# Altium schematic symbol library TAUV-Lib.SchLib: 493 symbols (part 1 of 5)
Pins are listed as number, name and electrical type; pins without a type are passive.

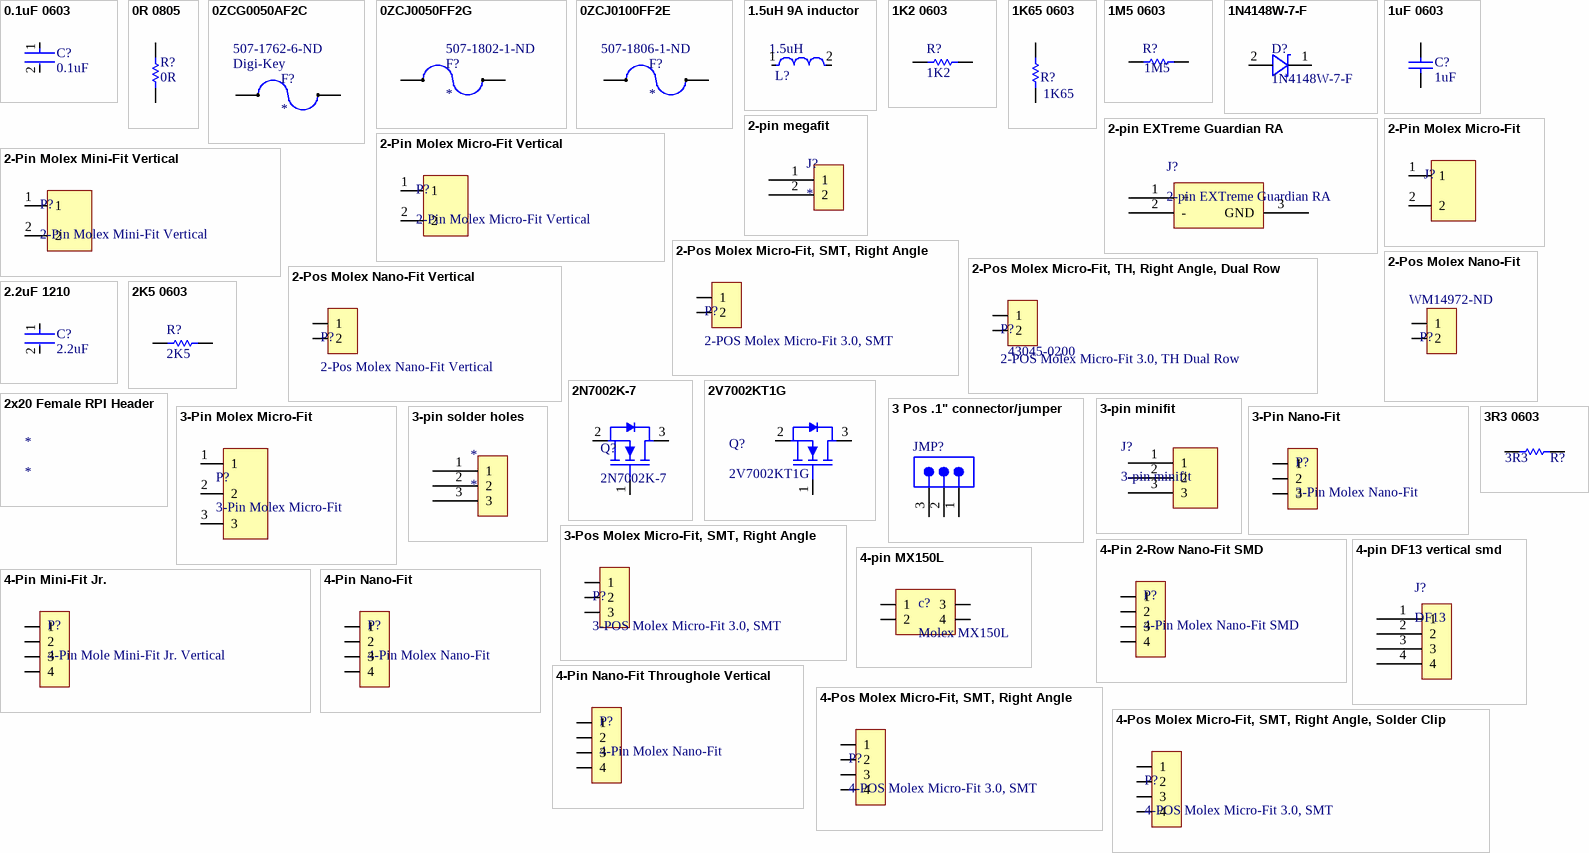
[diagram p0: symbols 0.1uF 0603 to 4-Pos Molex Micro-Fit, SMT, Right Angle, Solder Clip]

## 0.1uF 0603
designator C?, comment 0.1uF
CC0603KRX7R9BB104-CAP CER 0.1UF 50V X7R 0603; Manufacturer: YAGEO; Material: Ceramic; Capacitance: 100 nF; Temperature Coefficient: 15%; Tolerance: 0.1; Value: 100 nF; Height: 0.9mm; Voltage: 50 V; ComponentLink2Description: Datasheet; Device Class L2: Capacitors; Temperature Range High: +125°C; Category: Cap; Footprint Url: http://www.yageo.com/exep/pages/download/literatures/UPY-C_GEN_24.pdf; ComponentLink2URL: http://www.yageo.com/documents/recent/UPY-GPHC_X7R_6.3V-to-50V_18.pdf; Package: CC0603-DA; Temperature: -55°C to +125°C; Voltage Rating: 50 V; Temperature Characteristic: X7R; Device Class L1: Passive Components; Temperature Range Low: -55°C; Manufacturer Part Number: CC0603KRX7R9BB104; RoHS: TRUE; Automotive: No; Device Class L3: Ceramic Capacitors; Octopart: https://octopart.com/cc0603krx7r9bb104-yageo-42244635; Mouser Description: Multilayer Ceramic Capacitor, CC Series, 0.1 - F, - 10%, X7R, 50 V, 0603 [1608 Metric]; Lead Free: Yes; Digikey Description: CAP CER 0.1UF 50V X7R 0603; ComponentLink3Description: Link; ComponentLink3URL: https://www.digikey.com/en/products/detail/samsung-electro-mechanics/CL10B104KB8NNWC/3887593
footprint FP-CC0603-DA-MFG
footprint FP-CC0603-DA-IPC_C
footprint FP-CC0603-DA-IPC_B
footprint FP-CC0603-DA-IPC_A
footprint 0603
pins: 1, 2

## 0R 0805
designator R?, comment 0R
0 Ohm 0805; Manufacturer: Vishay Dale; Part Number: CRCW08050000Z0EA; ComponentLink1Description: Link; ComponentLink1URL: https://www.digikey.com/en/products/detail/stackpole-electronics-inc/RMCF0805ZT0R00/1756901
footprint RESC2013X50X30LL20T20 (Chip Resistor, 2-Leads, Body 2.00x1.25mm, IPC High Density)
footprint RESC2013X50X30ML20T20 (Chip Resistor, 2-Leads, Body 2.00x1.25mm, IPC Low Density)
footprint RESC2013X50X30NL20T20 (Chip Resistor, 2-Leads, Body 2.00x1.25mm, IPC Medium Density)
footprint 0805
pins: 1, 2
1 alternate drawing of the same symbol

## 0ZCG0050AF2C
designator F?  Supplier 1: Digi-Key  Supplier Part Number 1: 507-1762-6-ND
PTC RESET FUSE 30V 500MA 1812; ComponentLink1Description: Digikey Link; ComponentLink1URL: https://www.digikey.com/product-detail/en/bel-fuse-inc/0ZCG0050AF2C/507-1762-1-ND/4156148
footprint 1812 Resistor Package
pins: 1, 2

## 0ZCJ0050FF2G
designator F?  Supplier Part Number 1: 507-1802-1-ND
PTC RESTTBLE 0.50A 8V CHIP 1206; Supplier 1: Digi-Key
footprint FUSE 3217X06N (PTC Resettable Fuse 8V Ih Surface Mount 1206 (3216 Metric), Concave)
pins: 1, 2

## 0ZCJ0100FF2E
designator F?  Supplier Part Number 1: 507-1806-1-ND
PTC RESTTBLE 1.0A 6V CHIP 1206; Supplier 1: Digi-Key
footprint FUSE 3217X06N (PTC Resettable Fuse 8V Ih Surface Mount 1206 (3216 Metric), Concave)
pins: 1, 2

## 1.5uH 9A inductor
designator L?, comment 1.5uH
Commercial Inductors, High Saturation Series 1.5uH 9A 15mΩ 20%; DC Resistance (DCR): 15mR; Shielding: Shielded; Self Resonant Frequency: 5MHz; Max DC Current: 18A; Test Frequency: 100kHz; Core Material: Metal; Packaging: Tape and Reel; RMS Current (Irms): 9A; Length: 7.24mm; Case Code (Imperial): 2525; Case/Package: 2525; Min Operating Temperature: -55°C; Number of Pins: 2; Contact Plating: Tin; Height: 3mm; Height - Seated (Max): 0.118inch; Termination: SMD/SMT; Max Operating Temperature: 125°C; Depth: 6.72mm; Width: 6.47mm; Current Rating: 9A; Tolerance: 20%; Lead Free: Lead Free; Military Standard: Not; Radiation Hardening: No; Saturation Current: 18A; Package Quantity: 2000; Inductance Tolerance: 20%; Inductance: 1.5uH; Mount: Surface Mount; ComponentLink1Description: Link; ComponentLink1URL: https://www.digikey.com/en/products/detail/vishay-dale/IHLP2525CZER1R5M01/1220672
footprint FP-IHLP-2525CZ-FP_2_413x3-MFG
pins: 1, 2

## 1K2 0603
designator R?, comment 1K2
1K2 0.1W 1% 0603 (1608 Metric)  SMD; Case-EIA: 0603; Value: 1200.00 Ohm; Case-Metric: 1608; Power: 0.1 W; Technology: SMT; Tolerance: 1 %; ComponentLink1Description: Link; ComponentLink1URL: https://www.digikey.com/en/products/detail/yageo/RC0603FR-131K2L/14008161
footprint RESC0603(1608)_M (Chip Resistor, Body 1.6x0.8mm, IPC Low Density)
footprint RESC0603(1608)_N (Chip Resistor, Body 1.6x0.8mm, IPC Medium Density)
footprint RESC0603(1608)_L (Chip Resistor, Body 1.6x0.8mm, IPC High Density)
footprint 0603
pins: 1, 2
1 alternate drawing of the same symbol

## 1K65 0603
designator R?, comment 1K65
1.65k 0603; Part Number: RC0603FR-071K65L; Manufacturer: Yageo; ComponentLink1Description: Link; ComponentLink1URL: https://www.digikey.com/en/products/detail/yageo/RC0603FR-071K65L/726870
footprint RESC1608X55X25ML10T15 (Chip Resistor, 2-Leads, Body 1.60x0.80mm, IPC Low Density)
footprint RESC1608X55X25NL10T15 (Chip Resistor, 2-Leads, Body 1.60x0.80mm, IPC Medium Density)
footprint RESC1608X55X25LL10T15 (Chip Resistor, 2-Leads, Body 1.60x0.80mm, IPC High Density)
footprint 0603
pins: 1, 2
1 alternate drawing of the same symbol

## 1M5 0603
designator R?, comment 1M5
CRCW06031M50FKEA-1M5 0603; Manufacturer: Vishay Dale; Part Number: CRCW06031M50FKEA; ComponentLink1Description: Link; ComponentLink1URL: https://www.digikey.com/en/products/detail/yageo/RC0603FR-071M5L/726865
footprint RESC1609X50X30NL10T20 (Chip Resistor, 2-Leads, Body 1.55x0.85mm, IPC Medium Density)
footprint RESC1609X50X30LL10T20 (Chip Resistor, 2-Leads, Body 1.55x0.85mm, IPC High Density)
footprint RESC1609X50X30ML10T20 (Chip Resistor, 2-Leads, Body 1.55x0.85mm, IPC Low Density)
footprint 0603
pins: 1, 2
1 alternate drawing of the same symbol

## 1N4148W-7-F
designator D?
DIODE GEN PURP 100V 300MA SOD123; Supplier: DigiKey; Part Number: 1N4148W-7-F; Supplier Part Number: 1N4148W-FDICT-ND; Datasheet URL: https://www.diodes.com/assets/Datasheets/ds30086.pdf
footprint 1N4148W-7-F
pins: 1 NPNB, 2 NPNB

## 1uF 0603
designator C?, comment 1uF
CAP 1uF 25V ±10% 0603 (1608 Metric) Thickness 1mm SMD; Tolerance: Â±10%; Case-Metric: 1608; Case-EIA: 0603; Technology: SMT; Rated Voltage: 25 V; Max Thickness: 1 mm; Value: 1uF; ComponentLink1Description: Link; ComponentLink1URL: https://www.digikey.com/en/products/detail/samsung-electro-mechanics/CL10B105KA8NNNC/3886842
footprint CAPC0603(1608)100_L (Chip Capacitor, Body 1.6x0.8mm, Height 1.0mm, IPC High Density)
footprint CAPC0603(1608)100_N (Chip Capacitor, Body 1.6x0.8mm, Height 1.0mm, IPC Medium Density)
footprint CAPC0603(1608)100_M (Chip Capacitor, Body 1.6x0.8mm, Height 1.0mm, IPC Low Density)
footprint 0603
pins: 1, 2
1 alternate drawing of the same symbol

## 2-pin EXTreme Guardian RA
designator J?
WM8755-ND; ComponentLink1Description: digikey part; ComponentLink1URL: https://www.digikey.com/product-detail/en/molex/0468171002/WM8755-ND/3189761; ComponentLink2Description: mating connector; ComponentLink2URL: https://www.digikey.com/product-detail/en/molex/1510340012/WM14983-ND/6132389
footprint 2-pin EXTreme Guardian RA
pins: 1 +, 2 -, 3 GND

## 2-pin megafit
designator J?
footprint 2-pin Megafit RA
pins: 1, 2

## 2-Pin Molex Micro-Fit
designator J?
Part Number: 0436500203; Manufacturer: Molex; Datasheet: http://www.molex.com/pdm_docs/sd/436500203_sd.pdf; Supplier Part Number: WM1870-ND; Supplier: Digi-key
footprint 2 Pin Molex Micro-Fit
pins: 1, 2

## 2-Pin Molex Micro-Fit Vertical
designator P?
Part Number: 43650-0218; Manufacturer: Molex; Supplier 1: Digi-Key; Datasheet: http://www.molex.com/pdm_docs/sd/436500218_sd.pdf; Supplier Part Number 1: WM9757-ND
footprint 2 Pin Molex Micro-Fit Vertical
pins: 1, 2

## 2-Pin Molex Mini-Fit Vertical
designator P?
Part Number: 39-29-9025; Supplier Part Number: WM10860-ND; Supplier: Digi-key; Manufacturer: Molex
footprint Molex Mini Fit Jr. 2 Pin Vertical
pins: 1, 2

## 2-Pos Molex Micro-Fit, SMT, Right Angle
designator P?, comment 2-POS Molex Micro-Fit 3.0, SMT
2-Pos Molex Micro-Fit Right Angle, Dual Row, SMT; Part Number: 43650-0212; Datasheet: http://www.molex.com/pdm_docs/sd/436500212_sd.pdf; Manufacturer: Molex; Supplier 1: Digi-Key; Supplier Part Number 1: WM1890CT-ND
footprint 2-POS Molex Micro-Fit 3.0 (2-POS SMT HEADER, Molex Micro-Fit 3.0)
pins: 1, 2

## 2-Pos Molex Micro-Fit, TH, Right Angle, Dual Row
designator P?, comment 2-POS Molex Micro-Fit 3.0, TH Dual Row  Part Number: 43045-0200
2-Pos Molex Micro-Fit Right Angle, Dual Row, TH; Datasheet: http://www.molex.com/pdm_docs/sd/430450200_sd.pdf; Manufacturer: Molex; Supplier 1: Digi-Key; Supplier 2: Mouser; Supplier Part Number 2: N/A; Supplier Part Number 1: WM1813-ND
footprint 2-POS MOLEX MICRO-FIT 3.0 Dual Row (2-POS TH Dual Row HEADER, Molex Micro-Fit 3.0)
pins: 1, 2

## 2-Pos Molex Nano-Fit
designator P?  Supplier Part Number 1: WM14972-ND
2-Pos Molex Nano-Fit; Value: Value; Type: Type; RefDes: RefDes; Supplier 1: Digi-Key
footprint MOLEX NANO-FIT 1X2
pins: 1, 2

## 2-Pos Molex Nano-Fit Vertical
designator P?
Part Number: 1053111102; Datasheet: http://www.molex.com/pdm_docs/sd/436500212_sd.pdf; Manufacturer: Molex; Supplier 1: Digi-Key; Supplier Part Number 1: WM16921-ND
footprint MOLEX NANO-FIT 1X2 - Vertical (MOLEX NANO-FIT 1X2 - Vertical with Solder Clips)
pins: 1, 2

## 2.2uF 1210
designator C?, comment 2.2uF
General Purpose Ceramic Capacitor, 1210, 2.2uF, 10%, X7R, 15%, 100V; Dissipation Factor: 2.5%; Number of Pins: 2; Lead Free: Lead Free; Voltage Rating: 100V; Min Operating Temperature: -55°C; Height: 2.79mm; Length: 3.2mm; Capacitance: 2.2uF; RoHS Compliant: Yes; Case/Package: 1210; Max Operating Temperature: 125°C; Radiation Hardening: No; Series: -; Case Code (Metric): 3225; Dielectric: X7R; Voltage Rating (DC): 100V; Packaging: Tape and Reel; Width: 2.5mm; Thickness: 0.11inch; Depth: 2.5mm; Contact Plating: Tin; REACH SVHC: No SVHC; Tolerance: 10%; Construction: Flat; Case Code (Imperial): 1210; Mount: Surface Mount; Package Quantity: 1; Termination: SMD/SMT; Voltage: 100V; ComponentLink1Description: Link; ComponentLink1URL: https://www.digikey.com/en/products/detail/samsung-electro-mechanics/CL32B225KCJSNNE/3889020
footprint FP-1210-L_3_3_0_4-W_2_5_0-IPC_B
footprint FP-1210-L_3_3_0_4-W_2_5_0-IPC_C
footprint FP-1210-L_3_3_0_4-W_2_5_0-MFG
footprint FP-1210-L_3_3_0_4-W_2_5_0-IPC_A
footprint 1210
pins: 1, 2

## 2K5 0603
designator R?, comment 2K5
2.5K 0603; Manufacturer: Yageo; Part Number: RC0603FR-072K55L; ComponentLink1Description: Link; ComponentLink1URL: https://www.digikey.com/en/products/detail/yageo/RC0603FR-072K55L/727029
footprint RESC1608X55X25NL10T15 (Chip Resistor, 2-Leads, Body 1.60x0.80mm, IPC Medium Density)
footprint RESC1608X55X25LL10T15 (Chip Resistor, 2-Leads, Body 1.60x0.80mm, IPC High Density)
footprint RESC1608X55X25ML10T15 (Chip Resistor, 2-Leads, Body 1.60x0.80mm, IPC Low Density)
footprint 0603
pins: 1, 2
1 alternate drawing of the same symbol

## 2N7002K-7
designator Q?
MOSFET N-CH 60V 0.38A SOT23-3; Supplier: Digikey; Part Number: 2N7002K-7; Supplier Part Number: 2N7002K-7DICT-ND; Datasheet URL: https://www.diodes.com/assets/Datasheets/ds30896.pdf
footprint 2N7002K-7 (MOSFET N-CH 60V 0.38A SOT23-3)
pins: 1, 2, 3

## 2V7002KT1G
designator Q?
MOSFET N-CH 60V 320MA SOT-23-3; Supplier: DigiKey; Supplier Part Number: 2V7002KT1GOSCT-ND; Part Number: 2V7002KT1G; Datasheet URL: www.mouser.com/ds/2/308/2N7002K-D-40616.pdf
footprint 2V7002KT1G
pins: 1, 2, 3

## 2x20 Female RPI Header
designator *

## 3 Pos .1" connector/jumper
designator JMP?, comment TSW-103-07-L-S  (value not drawn)
0.025" SQ Post Header, Through-hole, Vertical, -55 to 125 degC, 2.54 mm Pitch, 3-Pin, Male, RoHS; Manufacturer: Samtec; Pitch: 2.54 mm; Mounting Technology: Through-hole; ComponentLink2URL: http://www.samtec.com/documents/webfiles/pdf/TSW_TH.PDF; ComponentLink3Description: Package Specification; PackageVersion: DM, 8/1988; PartNumber: TSW-103-07-L-S; PackageReference: TSW-103-07-X-S; Orientation: Vertical; ComponentLink1URL: http://www.samtec.com; PackageDescription: .025[0.64] SQ. Post Terminal Strip Assembly; ComponentLink1Description: Manufacturer URL; ComponentLink2Description: Datasheet; ComponentLink3URL: http://www.samtec.com/documents/webfiles/cpdf/TSW-XXX-XX-XXX-X-XX-XXX-MKT.pdf; RoHS: True; DatasheetVersion: F-214; Temperature Range: -55 to 125 degC
footprint SMTC-TSW-103-07-X-S (.025 SQ Post Terminal Strip Assembly, 1x3 Pins, Vertical, 2.54mm Pitch, Male)
pins: 1, 2, 3

## 3-pin minifit
designator J?
RA: WM4273-ND / VERT: WM18442-ND
footprint 3-PIN MINIFIT RA
footprint 3-PIN MINIFIT VERT
pins: 1, 2, 3

## 3-Pin Molex Micro-Fit
designator P?
3-Pin Molex Micro-Fit Right Angle; Part Number: 43650-0304; Datasheet: http://www.molex.com/pdm_docs/sd/436500304_sd.pdf; Supplier Part Number: WM1876-ND; Supplier: Digi-key; Manufacturer: Molex
footprint 3 Pin Molex Micro-Fit
pins: 1, 2, 3

## 3-Pin Nano-Fit
designator P?, comment 3-Pin Molex Nano-Fit
NanoFit RA Hdr TH SR 3Ckt; Part Number: 105313-1204; Supplier: Mouser; Manufacturer: Molex; Supplier Part Number: 538-105313-1204
footprint MOLEX NANO-FIT 1X3
pins: 1, 2, 3

## 3-pin solder holes
designator *
footprint 3-PIN SOLDER HOLES
footprint 3-PIN SOLDER HOLES - small
pins: 1, 2, 3

## 3-Pos Molex Micro-Fit, SMT, Right Angle
designator P?, comment 3-POS Molex Micro-Fit 3.0, SMT
3-Pos Molex Micro-Fit Right Angle, Dual Row, SMT; Part Number: 43650-0312; Datasheet: http://www.molex.com/pdm_docs/sd/436500312_sd.pdf; Manufacturer: Molex; Supplier 1: Digi-Key; Supplier Part Number 1: WM1891CT-ND
footprint 3-POS Molex Micro-Fit 3.0 (3-POS SMT HEADER, Molex Micro-Fit 3.0)
pins: 1, 2, 3

## 3R3 0603
designator R?, comment 3R3
ERJ-3RQF3R3V- 3R3 0603; Manufacturer: Panasonic; Part Number: ERJ-3RQF3R3V; ComponentLink1Description: Link; ComponentLink1URL: https://www.digikey.com/en/products/detail/yageo/RC0603FR-133R3L/14008285
footprint RESC1608X55X30NL15T15 (Footprint not found)
footprint RESC1608X55X30LL15T15 (Chip Resistor, 2-Leads, Body 1.60x0.80mm, IPC High Density)
footprint RESC1608X55X30ML15T15 (Chip Resistor, 2-Leads, Body 1.60x0.80mm, IPC Low Density)
footprint 0603
pins: 1, 2
1 alternate drawing of the same symbol

## 4-Pin 2-Row Nano-Fit SMD
designator P?, comment 4-Pin Molex Nano-Fit SMD
NanoFit RA Hdr SMD SR 4Ckt 2Row; Part Number: 105313-1204; Supplier: Mouser; Manufacturer: Molex; Supplier Part Number: 538-105313-1204
footprint 4-POS 2x2 MOLEX NANO-FIT SMT
pins: 1, 2, 3, 4

## 4-pin DF13 vertical smd
designator J?, comment DF13
H126000CT-ND
footprint 4-pin DF13 vertical smd
pins: 1, 2, 3, 4

## 4-Pin Mini-Fit Jr.
designator P?, comment 4-Pin Mole Mini-Fit Jr. Vertical
Manufacturer: Molex; Part Number: 0039302042; Supplier: Digikey; Supplier Part Number: WM12737-ND
footprint Molex Mini Fit Jr. 4 Pin Vertical
pins: 1, 2, 3, 4

## 4-pin MX150L
designator c?, comment Molex MX150L
footprint Molex MX150L 2x2
pins: 1, 2, 3, 4

## 4-Pin Nano-Fit
designator P?, comment 4-Pin Molex Nano-Fit
NanoFit RA Hdr TH SR 4Ckt; Part Number: 105313-1204; Supplier: Mouser; Manufacturer: Molex; Supplier Part Number: 538-105313-1204
footprint MOLEX NANO-FIT 1X4
pins: 1, 2, 3, 4

## 4-Pin Nano-Fit Throughole Vertical
designator P?, comment 4-Pin Molex Nano-Fit
NanoFit ST Hdr TH SR 4Ckt; Part Number: 105313-1204; Supplier: Mouser; Manufacturer: Molex; Supplier Part Number: 538-105313-1204
footprint MOLEX NANO-FIT 1X4 - Vertical (MOLEX NANO-FIT 1X4 - Vertical with Solder Clips)
pins: 1, 2, 3, 4

## 4-Pos Molex Micro-Fit, SMT, Right Angle
designator P?, comment 4-POS Molex Micro-Fit 3.0, SMT
4-Pos Molex Micro-Fit Right Angle, SMT; Part Number: 43650-0412; Datasheet: http://www.molex.com/pdm_docs/sd/436500412_sd.pdf; Manufacturer: Molex; Supplier 1: Digi-Key; Supplier Part Number 1: WM1892CT-ND
footprint 4-POS Molex Micro-Fit 3.0 (4-POS SMT HEADER, Molex Micro-Fit 3.0)
pins: 1, 2, 3, 4

## 4-Pos Molex Micro-Fit, SMT, Right Angle, Solder Clip
designator P?, comment 4-POS Molex Micro-Fit 3.0, SMT
4-Pos Molex Micro-Fit Right Angle, Solder Clip, SMT; Part Number: 43650-0412; Datasheet: http://www.molex.com/pdm_docs/sd/436500412_sd.pdf; Manufacturer: Molex; Supplier 1: Digi-Key; Supplier Part Number 1: WM1892CT-ND
footprint 4-POS Molex Micro-Fit 3.0, solder clip (4-POS SMT HEADER, Molex Micro-Fit 3.0, solder clip)
pins: 1, 2, 3, 4

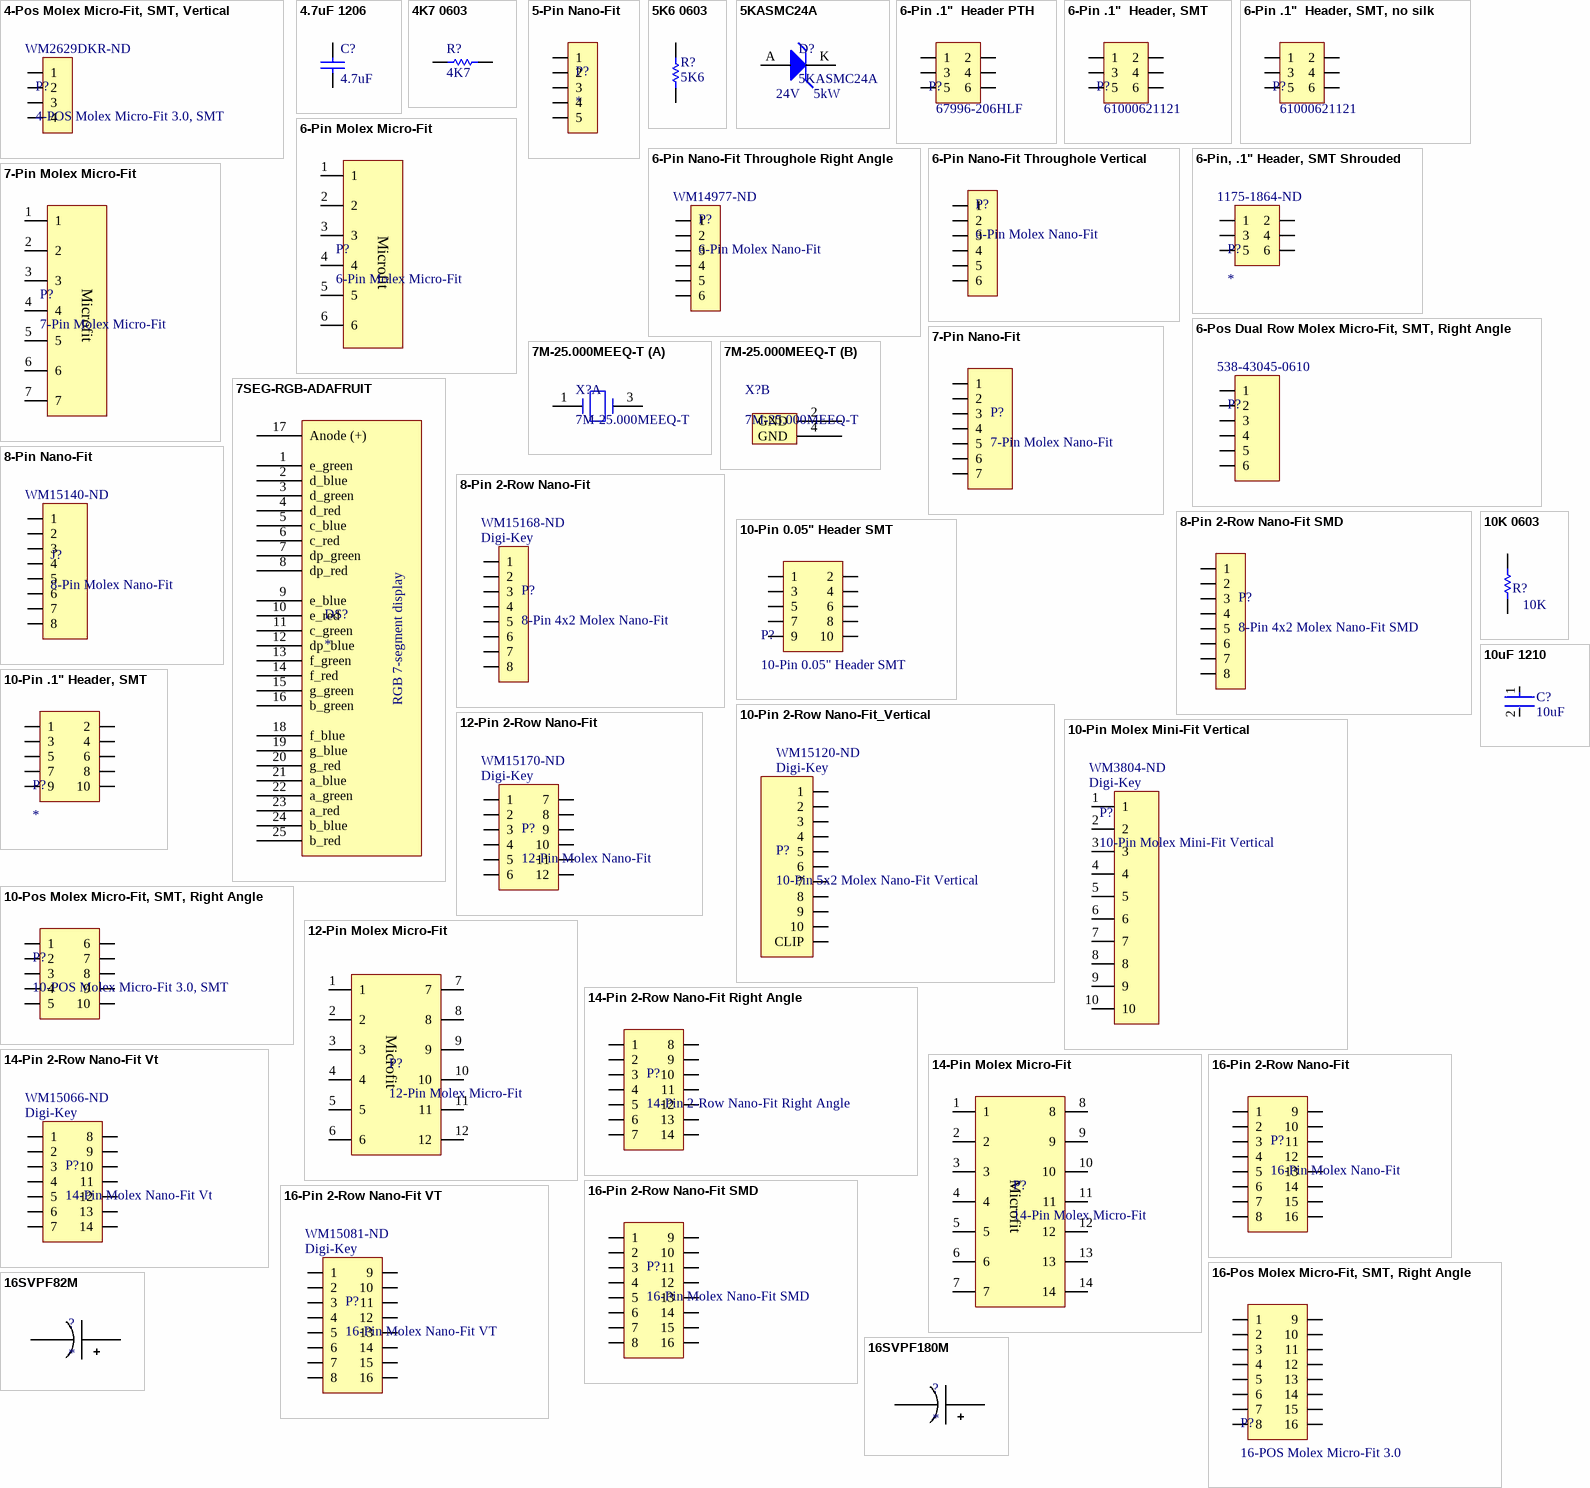
[diagram p1: symbols 4-Pos Molex Micro-Fit, SMT, Vertical to 16SVPF180M]

## 4-Pos Molex Micro-Fit, SMT, Vertical
designator P?, comment 4-POS Molex Micro-Fit 3.0, SMT  Supplier Part Number 1: WM2629DKR-ND
4-Pos Molex Micro-Fit Right Angle, Dual Row, SMT; Part Number: 43650-0412; Datasheet: http://www.molex.com/pdm_docs/sd/436500412_sd.pdf; Manufacturer: Molex; Supplier 1: Digi-Key
footprint 4-POS Molex Micro-Fit 3.0 Vertical (4-POS SMT HEADER, Molex Micro-Fit 3.0 Vertical)
pins: 1, 2, 3, 4

## 4.7uF 1206
designator C?, comment 4.7uF
CAP 4.7uF 35V ±10% 1206 (3216 Metric) Thickness 1.9mm SMD; Case-EIA: 1206; Tolerance: Â±10%; Case-Metric: 3216; Rated Voltage: 35 V; Technology: SMT; Value: 4.7uF; Max Thickness: 1.9 mm; ComponentLink1Description: Link; ComponentLink1URL: https://www.digikey.com/en/products/detail/samsung-electro-mechanics/CL31B475KBHNFNE/3888837
footprint CAPC1206(3216)190_L (Chip Capacitor, Body 3.2x1.6mm, Height 1.9mm, IPC High Density)
footprint CAPC1206(3216)190_M (Chip Capacitor, Body 3.2x1.6mm, Height 1.9mm, IPC Low Density)
footprint CAPC1206(3216)190_N (Chip Capacitor, Body 3.2x1.6mm, Height 1.9mm, IPC Medium Density)
footprint 1206
pins: 1, 2
1 alternate drawing of the same symbol

## 4K7 0603
designator R?, comment 4K7
4K7 0.1W 1% 0603 (1608 Metric)  SMD; Case-EIA: 0603; Case-Metric: 1608; Value: 4700.00 Ohm; Power: 0.1 W; Tolerance: 1 %; Technology: SMT; ComponentLink1Description: Link; ComponentLink1URL: https://www.digikey.com/en/products/detail/yageo/RC0603FR-074K7L/727212
footprint RESC0603(1608)_N (Chip Resistor, Body 1.6x0.8mm, IPC Medium Density)
footprint RESC0603(1608)_L (Chip Resistor, Body 1.6x0.8mm, IPC High Density)
footprint RESC0603(1608)_M (Chip Resistor, Body 1.6x0.8mm, IPC Low Density)
footprint 0603
pins: 1, 2
1 alternate drawing of the same symbol

## 5-Pin Nano-Fit
designator P?
pins: 1, 2, 3, 4, 5

## 5K6 0603
designator R?, comment 5K6
Chip Resistor, 5.6 KOhm, +/- 1%, 0.1 W, -55 to 155 degC, 0603 (1608 Metric), RoHS, Tape and Reel; Elements: 1; Max Power Dissipation: 625 mW; hFE Min: 100; Case\Package: TO-236-3; Frequency: 300 MHz; Vce Max: 300 mV; Packaging: Tape and Reel; PackageReference: 0603; RoHSCompliant: true; ComponentLink1URL: http://www.panasonic.com/; ComponentLink2Description: Datasheet; REACH SVHC: No SVHC; PackageDescription: 2-Pin Surface Mount Device, Body 1.6 x 0.85 mm; Mount: Surface Mount; Height: 0.25 inch; Max Operating Temperature: 150 degC; Min Operating Temperature: -55 degC; ComponentLink1Description: Manufacturer URL; Width: 0.25 inch; Package Quantity: 3000; Length: 0.25 inch; DatasheetVersion: Apr-15; Pins: 3; ComponentLink2URL: http://industrial.panasonic.com/cdbs/www-data/pdf/RDA0000/AOA0000C86.pdf; Weight: 0.002116 oz; Radiation Hardening: No; ComponentLink3Description: Link; ComponentLink3URL: https://www.digikey.com/en/products/detail/yageo/RC0603FR-135K6L/14286727
footprint RESC1609X55X30LL15T15 (Chip Resistor, 2-Leads, Body 1.75x0.95mm, IPC High Density)
footprint RESC1609X55X30NL15T15 (Chip Resistor, 2-Leads, Body 1.75x0.95mm, IPC Medium Density)
footprint RESC1609X55X30ML15T15 (Chip Resistor, 2-Leads, Body 1.75x0.95mm, IPC Low Density)
footprint 0603
pins: 1, 2

## 5KASMC24A
designator D?  Power - Peak Pulse: 5kW  Reverse Standoff Voltage: 24V
TVS Diode, Vbr~=28V, 5000W; Supplier 1: Digi-Key; Supplier Part Number 1: 5KASMC24AHM3/57GICT-ND; Datasheet: http://www.vishay.com/docs/89432/5kasmc.pdf
footprint 5KASMC24A
pins: A, K

## 6-Pin .1"  Header PTH
designator P?, comment Manufacturer Part Number: 67996-206HLF  (hidden comment: 3x2 .1" TH Header)
Rows: 2; Supplier 1: Digi-Key; Supplier Part Number 1: 609-3210-ND
footprint 6 PIN Header, .1", TH (3x2 .1" TH Header)
pins: 1, 2, 3, 4, 5, 6

## 6-Pin .1"  Header, SMT
designator P?, comment Manufacturer Part Number: 61000621121  (hidden comment: 3x2 .1" SMT Header)
Rows: 2; Supplier 1: Digi-Key; Supplier Part Number 1: 732-5461-5-ND
footprint 6 PIN Header, .1", SMT (3x2 .1" SMT Header)
pins: 1, 2, 3, 4, 5, 6

## 6-Pin .1"  Header, SMT, no silk
designator P?, comment Manufacturer Part Number: 61000621121  (hidden comment: 3x2 .1" SMT Header, no silk)
Rows: 2; Supplier 1: Digi-Key; Supplier Part Number 1: 732-5461-5-ND
footprint 6 PIN Header, .1", SMT, no silk (w/out silkscreen box)
pins: 1, 2, 3, 4, 5, 6

## 6-Pin Molex Micro-Fit
designator P?
6-Pin Molex Micro-Fit Right Angle; Part Number: 0436500600; Datasheet: http://www.molex.com/molex/products/datasheet.jsp?part=active/0436500609_PCB_HEADERS.xml; Supplier Part Number: WM1864-ND; Supplier: Digi-key; Manufacturer: Molex
footprint 6 Pin Molex Micro-Fit
pins: 1, 2, 3, 4, 5, 6
text: Microfit

## 6-Pin Nano-Fit Throughole Right Angle
designator P?, comment 6-Pin Molex Nano-Fit  Supplier Part Number 1: WM14977-ND
NanoFit ST Hdr TH SR 6Ckt 2x3; Part Number: 105313-1204; Supplier: Mouser; Manufacturer: Molex; Supplier Part Number: 538-105313-1204; Supplier 1: Digi-Key
footprint MOLEX NANO-FIT 2X3 - RIGHT ANGLE (MOLEX NANO-FIT 2X3 - Right Angle)
pins: 1, 2, 3, 4, 5, 6

## 6-Pin Nano-Fit Throughole Vertical
designator P?, comment 6-Pin Molex Nano-Fit
NanoFit ST Hdr TH SR 6Ckt 2x3; Part Number: 105313-1204; Supplier: Mouser; Manufacturer: Molex; Supplier Part Number: 538-105313-1204
footprint MOLEX NANO-FIT 2x3 - Vertical (MOLEX NANO-FIT 2X3 - Vertical with Solder Clips)
pins: 1, 2, 3, 4, 5, 6

## 6-Pin, .1" Header, SMT Shrouded
designator P?  Supplier Part Number 1: 1175-1864-ND
IDC BOX HEADER 0.100 6 POS; Supplier 1: Digi-Key
footprint 6 PIN HEADER, .1", SMT SHROUDED
pins: 1, 2, 3, 4, 5, 6

## 6-Pos Dual Row Molex Micro-Fit, SMT, Right Angle
designator P?, comment Supplier Part Number 1: 538-43045-0610  (hidden comment: 6-POS Dual Row Molex Micro-Fit 3.0, SMT)
6-Pos Dual Row Molex Micro-Fit, SMT, Right Angle; Part Number: 43045-0610; Datasheet: http://www.mouser.com/ds/2/276/0430450610_PCB_HEADERS-142619.pdf; Manufacturer: Molex; Supplier 1: Mouser
footprint 6-POS Dual Row Molex Micro-Fit 3.0 (6-POS Dual Row SMT HEADER, Molex Micro-Fit 3.0)
pins: 1, 2, 3, 4, 5, 6

## 7-Pin Molex Micro-Fit
designator P?
7-Pin Molex Micro-Fit Right Angle; Part Number: 0436500700; Datasheet: http://www.molex.com/pdm_docs/sd/436500203_sd.pdf; Supplier Part Number: WM2423-ND; Supplier: Digi-key; Manufacturer: Molex
footprint 7 Pin Molex Micro-Fit
pins: 1, 2, 3, 4, 5, 6, 7
text: Microfit

## 7-Pin Nano-Fit
designator P?, comment 7-Pin Molex Nano-Fit
NanoFit RA Hdr TH SR 7Ckt; Manufacturer: Mouser; Part Number: 105313-1207; Supplier: Mouser; Supplier Part Number: 538-105313-1207
footprint MOLEX NANO-FIT 1x7
pins: 1, 2, 3, 4, 5, 6, 7

## 7M-25.000MEEQ-T
designator X?
CRYSTAL 25.0000MHZ 10PF SMD; Manufacturer 1: TXC; Frequency: 25MHz; Frequency Tolerance: 10ppm; ESR (Equivalent Series Resistance): 60R; Supplier 1: Digi-Key; Supplier Part Number 1: 887-1326-1-ND; Manufacturer Part Number 1: 7M-25.000MEEQ-T; Stock 1: 17097; Pricing 1: 1=1.27, 10=1.209, 50=1.1812, 100=1.0125, 500=0.9844, 1000=0.8297 (USD); Mount: Surface Mount; Case/Package: SMD/SMT; Number of Pins: 4; Min Operating Temperature: -20°C; Max Operating Temperature: 70°C; Load Capacitance: 10pF; Packaging: Tape and Reel; Package Quantity: 3000; Tolerance: 10ppm; Frequency Stability: 10ppm; Termination: SMD/SMT; Length: 3.2mm; Height: 0.031inch; Width: 0.098inch; Depth: 2.5mm; REACH SVHC: No SVHC; ComponentLink1URL: https://datasheet.ciiva.com/26918/getdatasheetpartid-757227-26918816.pdf; ComponentLink1Description: https://datasheet.ciiva.com/26918/getdatasheetpartid-757227-26918816.pdf; ComponentLink2URL: https://datasheet.ciiva.com/856/7m-accuracy-856022.pdf; ComponentLink2Description: https://datasheet.ciiva.com/856/7m-accuracy-856022.pdf; ComponentLink3URL: https://datasheet.ciiva.com/22658/1794111-22658486.pdf; ComponentLink3Description: https://datasheet.ciiva.com/22658/1794111-22658486.pdf; ComponentLink4URL: https://datasheet.ciiva.com/856/7m-accuracy-856023.pdf; ComponentLink4Description: https://datasheet.ciiva.com/856/7m-accuracy-856023.pdf; ComponentLink5URL: https://datasheet.ciiva.com/856/7m-accuracy-856024.pdf; ComponentLink5Description: https://datasheet.ciiva.com/856/7m-accuracy-856024.pdf; ComponentLink6URL: https://datasheet.ciiva.com/4946/7m-11184-4946126.pdf; ComponentLink6Description: https://datasheet.ciiva.com/4946/7m-11184-4946126.pdf; ComponentLink7URL: https://datasheet.ciiva.com/28498/1794111-28498878.pdf; ComponentLink7Description: https://datasheet.ciiva.com/28498/1794111-28498878.pdf
footprint OSCSC320X250X100N
part A pins: 1 11, 3
part B pins: 2 GND, 4 GND

## 7SEG-RGB-ADAFRUIT
designator DS?
footprint 7SEG-RGB-ADAFRUIT
pins: 1 e_green, 2 d_blue, 3 d_green, 4 d_red, 5 c_blue, 6 c_red, 7 dp_green, 8 dp_red, 9 e_blue, 10 e_red, 11 c_green, 12 dp_blue, 13 f_green, 14 f_red, 15 g_green, 16 b_green, 17 Anode (+), 18 f_blue, 19 g_blue, 20 g_red, 21 a_blue, 22 a_green, 23 a_red, 24 b_blue, 25 b_red
text: RGB 7-segment display

## 8-Pin 2-Row Nano-Fit
designator P?, comment 8-Pin 4x2 Molex Nano-Fit  Supplier 1: Digi-Key  Supplier Part Number 1: WM15168-ND
NanoFit RA Hdr TH DR 8Ckt; Part Number: 105314-1216; Supplier: Digi-Key; Manufacturer: Molex; Supplier Part Number: WM15165-ND
footprint MOLEX NANO-FIT 2x4 (MOLEX NANO-FIT 2X4)
pins: 1, 2, 3, 4, 5, 6, 7, 8

## 8-Pin 2-Row Nano-Fit SMD
designator P?, comment 8-Pin 4x2 Molex Nano-Fit SMD
NanoFit RA Hdr SMD DR 8Ckt; Part Number: 105314-1216; Supplier: Digi-Key; Manufacturer: Molex; Supplier Part Number: WM15165-ND
footprint MOLEX NANO-FIT 4X2 RA SMD
pins: 1, 2, 3, 4, 5, 6, 7, 8

## 8-Pin Nano-Fit
designator J?, comment 8-Pin Molex Nano-Fit  Supplier Part Number 1: WM15140-ND
NANO-FIT HDR RA SGL 8CKT 15AU BL; Supplier 1: Digi-Key
footprint MOLEX NANO-FIT 1x8
pins: 1, 2, 3, 4, 5, 6, 7, 8

## 10-Pin 0.05" Header SMT
designator P?
Manu. Part Number: 3220-10-0300-00; Manu: CNC Tech; Supplier Part Number: 1175-1629-ND; Supplier 1: Digi-Key; Supplier Part Number 1: 1175-1629-ND
footprint 10 PIN 0.05" HEADER
pins: 1, 2, 3, 4, 5, 6, 7, 8, 9, 10

## 10-Pin 2-Row Nano-Fit_Vertical
designator P?, comment 10-Pin 5x2 Molex Nano-Fit Vertical  Supplier 1: Digi-Key  Supplier Part Number 1: WM15120-ND
NanoFit VT Hdr TH DR 10Ckt; Part Number: 105314-1216; Supplier: Digi-Key; Manufacturer: Molex; Supplier Part Number: WM15165-ND; ComponentLink1Description: Digikey Link; ComponentLink1URL: https://www.digikey.com/product-detail/en/molex-llc/1053121310/WM15120-ND/6164209
footprint MOLEX NANO-FIT 2x5 - Vertical (MOLEX NANO-FIT 2X5 - Vertical with Solder Clips)
pins: 1, 2, 3, 4, 5, 6, 7, 8, 9, 10, 11 CLIP

## 10-Pin .1" Header, SMT
designator P?
Manu. Part Number: 3020-10-0300-00; Manu: CNC Tech; Max Current: 1A; Max Voltage: 500VAC; Supplier 1: Digi-Key; Supplier Part Number 1: 1175-1621-ND
footprint 10 PIN .100" SMT Header
pins: 1, 2, 3, 4, 5, 6, 7, 8, 9, 10

## 10-Pin Molex Mini-Fit Vertical
designator P?  Supplier 1: Digi-Key  Supplier Part Number 1: WM3804-ND
Part Number: 39-29-9025; Supplier Part Number: WM10860-ND; Supplier: Digi-key; Manufacturer: Molex; ComponentLink1Description: Digikey Link; ComponentLink1URL: https://www.digikey.com/product-detail/en/molex-connector-corporation/39-28-9068/WM3834-ND/1633808
footprint Molex Mini Fit Jr. 10 Pin Vertical
pins: 1, 2, 3, 4, 5, 6, 7, 8, 9, 10

## 10-Pos Molex Micro-Fit, SMT, Right Angle
designator P?, comment 10-POS Molex Micro-Fit 3.0, SMT
10-Pos Molex Micro-Fit Right Angle, Dual Row, SMT; Part Number: 43045-1010; Datasheet: http://www.molex.com/pdm_docs/sd/430451010_sd.pdf; Manufacturer: Molex; Supplier 1: Digi-Key; Supplier Part Number 1: WM3819CT-ND
footprint 10-POS Molex Micro-Fit 3.0 (10-POS SMT HEADER, Molex Micro-Fit 3.0)
pins: 1, 2, 3, 4, 5, 6, 7, 8, 9, 10

## 10K 0603
designator R?, comment 10K
Chip Resistor, 10 KOhm, +/- 1%, 100 mW, -55 to 155 degC, 0603 (1608 Metric), RoHS, Tape and Reel; Manufacturer: Vishay Semiconductor; Voltage Rating: 75 V; Max Operating Temperature: 155 degC; PackageDescription: 2-Pin Surface Mount Device, Body 1.575 x 0.85 mm; ComponentLink1Description: Manufacturer URL; RoHSCompliant: true; PackageReference: 0603; REACH SVHC: Unknown; Length: 1.55 mm; DatasheetVersion: 06/2012; Packaging: Tape and Reel; Min Operating Temperature: -55 degC; Mounting Technology: Surface Mount; ComponentLink2URL: https://datasheet.ciiva.com/11809/0900766b80d98afc-11809037.pdf; Height: 0.45 mm; ComponentLink2Description: Datasheet; Package Quantity: 5000; ComponentLink1URL: http://www.vishay.com/; ComponentLink3Description: Link; ComponentLink3URL: https://www.digikey.com/en/products/detail/stackpole-electronics-inc/RNCP0603FTD10K0/2240139
footprint RESC1609X50X30NL8T20 (Chip Resistor, 2-Leads, Body 1.65x0.95mm, IPC Medium Density)
footprint RESC1609X50X30ML8T20 (Chip Resistor, 2-Leads, Body 1.65x0.95mm, IPC Low Density)
footprint RESC1609X50X30LL8T20 (Chip Resistor, 2-Leads, Body 1.65x0.95mm, IPC High Density)
footprint 0603
pins: 1, 2

## 10uF 1210
designator C?, comment 10uF
CAP CER 10UF 50V X7R 1210; Manufacturer Part Number: GRM32ER71H106KA12L; Manufacturer: Murata; Tolerance: 10%; Material: Ceramic; Temperature Coefficient: 15%; Voltage Rating: 50V; Temperature Characteristic: X7R; Value: 10uF; ComponentLink2Description: Datasheet; Device Class L1: Passive Components; Lead Free: Yes; Temperature Range High: +125°C; Category: Cap; ComponentLink2URL: https://search.murata.co.jp/Ceramy/image/img/A01X/G101/ENG/GRM32ER71H106KA12-01.pdf; Device Class L2: Capacitors; Package: GRM32; Mouser Description: 1210 10 uF 50 V ±10% Tolerance X7R SMT Multilayer Ceramic Capacitor; Capacitance: 10uF; Octopart: https://octopart.com/grm32er71h106ka12l-murata-10470987; Digikey Description: CAP CER 10UF 50V X7R 1210; Height: 2.7mm; Temperature: -55°C to +125°C; Temperature Range Low: -55°C; RoHS: TRUE; Device Class L3: Ceramic Capacitors; Automotive: No; ComponentLink3Description: Link; ComponentLink3URL: https://www.digikey.com/en/products/detail/samsung-electro-mechanics/CL32B106KBJNNNE/3889045
footprint FP-GRM32-MFG
footprint FP-GRM32-IPC_C
footprint FP-GRM32-IPC_B
footprint FP-GRM32-IPC_A
footprint 1210
pins: 1, 2

## 12-Pin 2-Row Nano-Fit
designator P?, comment 12-Pin Molex Nano-Fit  Supplier 1: Digi-Key  Supplier Part Number 1: WM15170-ND
NanoFit RA Hdr TH DR 12Ckt; ComponentLink1Description: Digikey Link; ComponentLink1URL: https://www.digikey.com/product-detail/en/molex-llc/1053141312/WM15170-ND/6164259
footprint MOLEX NANO-FIT 2X6 - Right Angle
pins: 1, 2, 3, 4, 5, 6, 7, 8, 9, 10, 11, 12

## 12-Pin Molex Micro-Fit
designator P?
12-Pin Molex Micro-Fit Right Angle, Dual Row; Part Number: 43045-1200; Datasheet: https://www.molex.com/molex/products/datasheet.jsp?part=active/0430451200_PCB_HEADERS.xml; Supplier Part Number: WM1818-ND; Supplier: Digi-key; Manufacturer: Molex
footprint 12-POS MOLEX MICRO-FIT RIGHT-ANGLE
pins: 1, 2, 3, 4, 5, 6, 7, 8, 9, 10, 11, 12
text: Microfit

## 14-Pin 2-Row Nano-Fit Right Angle
designator P?
NanoFit Right Hdr TH DR 14Ckt; Part Number: 105314-1214; Manufacturer: Molex; Supplier: Mouser; Supplier Part Number: 538-105314-1214; Supplier 1: Mouser; Supplier Part Number 1: 538-105314-1214; ComponentLink1Description: Mouser Link; ComponentLink1URL: https://www.mouser.com/ProductDetail/Molex/105314-1214?qs=PqFvFmEiOr6wLIXpvlvqbA%3D%3D; ComponentLink2Description: Link; ComponentLink2URL: https://www.digikey.com/en/products/detail/molex/1053141114/7693193
footprint MOLEX NANO-FIT 2X7 - Right Angle
pins: 1, 2, 3, 4, 5, 6, 7, 8, 9, 10, 11, 12, 13, 14

## 14-Pin 2-Row Nano-Fit Vt
designator P?, comment 14-Pin Molex Nano-Fit Vt  Supplier 1: Digi-Key  Supplier Part Number 1: WM15066-ND
NanoFit VT Hdr TH DR 14Ckt; Part Number: 105314-1216; Supplier: Digi-Key; Manufacturer: Molex; Supplier Part Number: WM15165-ND; ComponentLink1Description: Digikey Link; ComponentLink1URL: https://www.digikey.com/product-detail/en/molex-llc/1053101314/WM15066-ND/6164155
footprint MOLEX NANO-FIT 2X7 - Vertical
pins: 1, 2, 3, 4, 5, 6, 7, 8, 9, 10, 11, 12, 13, 14

## 14-Pin Molex Micro-Fit
designator P?
14-Pin Molex Micro-Fit Right Angle, Dual Row; Part Number: 43045-1402; Datasheet: http://www.molex.com/webdocs/datasheets/pdf/en-us/0430451402_PCB_HEADERS.pdf; Supplier Part Number: WM4729-ND; Supplier: Digi-key; Manufacturer: Molex
footprint 14 Pin Molex Micro-Fit
pins: 1, 2, 3, 4, 5, 6, 7, 8, 9, 10, 11, 12, 13, 14
text: Microfit

## 16-Pin 2-Row Nano-Fit
designator P?, comment 16-Pin Molex Nano-Fit
NanoFit RA Hdr TH DR 16Ckt; Part Number: 105314-1216; Supplier: Digi-Key; Manufacturer: Molex; Supplier Part Number: WM15165-ND
footprint MOLEX NANO-FIT 2X8
pins: 1, 2, 3, 4, 5, 6, 7, 8, 9, 10, 11, 12, 13, 14, 15, 16

## 16-Pin 2-Row Nano-Fit SMD
designator P?, comment 16-Pin Molex Nano-Fit SMD
NanoFit SMD Hdr TH DR 16Ckt; Part Number: 105314-1216; Supplier: Digikey; Manufacturer: Molex; Supplier Part Number: WM15165-ND
footprint 16-POS MOLEX NANO-FIT SMT
pins: 1, 2, 3, 4, 5, 6, 7, 8, 9, 10, 11, 12, 13, 14, 15, 16

## 16-Pin 2-Row Nano-Fit VT
designator P?, comment 16-Pin Molex Nano-Fit VT  Supplier 1: Digi-Key  Supplier Part Number 1: WM15081-ND
NanoFit VT Hdr TH DR 16Ckt; Part Number: 105314-1216; Supplier: Digi-Key; Manufacturer: Molex; Supplier Part Number: WM15165-ND; ComponentLink1Description: Digikey Link; ComponentLink1URL: WM15081-ND
footprint MOLEX NANO-FIT 2X8 - Vertical
pins: 1, 2, 3, 4, 5, 6, 7, 8, 9, 10, 11, 12, 13, 14, 15, 16

## 16-Pos Molex Micro-Fit, SMT, Right Angle
designator P?, comment 16-POS Molex Micro-Fit 3.0
16-Pos Molex Micro-Fit Right Angle, Dual Row; Part Number: 43045-1609; Datasheet: http://www.molex.com/webdocs/datasheets/pdf/en-us/0430451402_PCB_HEADERS.pdf; Manufacturer: Molex; Supplier 1: Mouser; Supplier Part Number 1: 538-43045-1609
footprint 16-POS Molex Micro-Fit 3.0 (16-POS SMT HEADER, Molex Micro-Fit 3.0)
pins: 1, 2, 3, 4, 5, 6, 7, 8, 9, 10, 11, 12, 13, 14, 15, 16

## 16SVPF82M
designator ?
No Description Available; Manufacturer_Part_Number: 16SVPF82M; Cap: 8.2E-5; ESR: 0.027; IRMS: 3.0; VDC: 16.0; Vendor: Panasonic; Datasheet_URL: http://industrial.panasonic.com/www%2Ddata/pdf/AAB8000/AAB8000CE1.pdf; Manufacturer_Name: Panasonic; Copyright: Copyright (C) 2018 Accelerated Designs. All rights reserved; RefDes: RefDes; Type: DEV; Value: Value
footprint CAPSMT_62_E61
pins: 1 +, 2 -

## 16SVPF180M
designator ?
No Description Available; Manufacturer_Part_Number: 16SVPE180M; Vendor: Panasonic; Manufacturer_Name: Panasonic; Copyright: Copyright (C) 2018 Accelerated Designs. All rights reserved; RefDes: RefDes; TYPE: TYPE; Value: Value
footprint CAPSMT_62_C10
pins: 1 +, 2 -

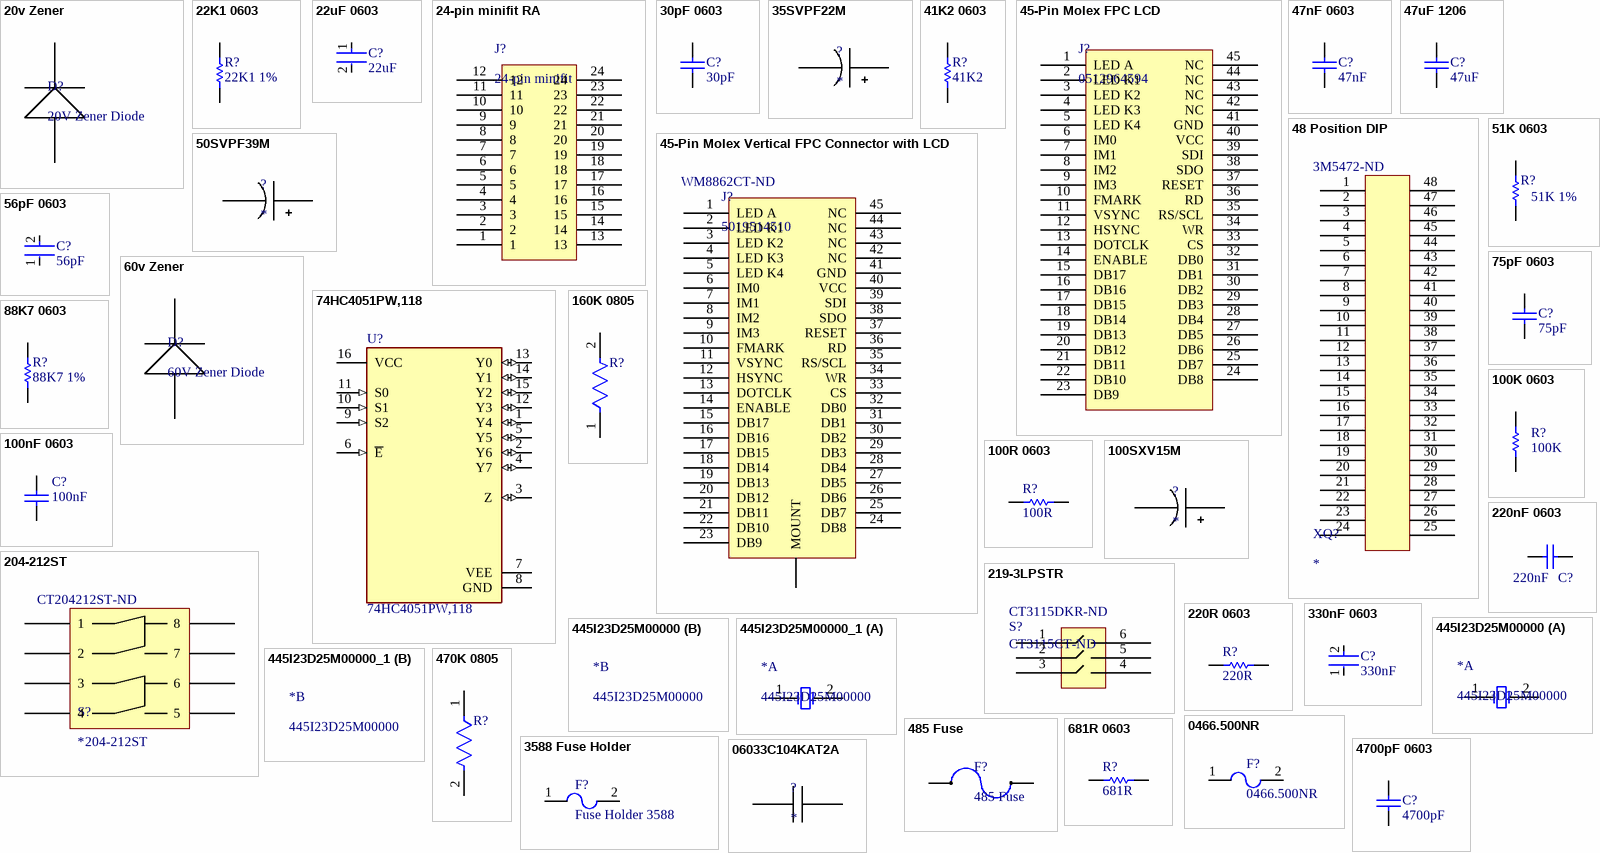
[diagram p2: symbols 20v Zener to 06033C104KAT2A]

## 20v Zener
designator D?, comment 20V Zener Diode
footprint UDZS20B (20v Zener)
pins: 1, 2

## 22K1 0603
designator R?, comment 22K1 1%
22K1 0.1W 1% 0603 (1608 Metric)  SMD; Case-EIA: 0603; Case-Metric: 1608; Value: 22100.00 Ohm; Tolerance: 1 %; Power: 0.1 W; Technology: SMT; ComponentLink1Description: Link; ComponentLink1URL: https://www.digikey.com/en/products/detail/yageo/RC0603FR-0722K1L/727058
footprint RESC0603(1608)_N (Chip Resistor, Body 1.6x0.8mm, IPC Medium Density)
footprint RESC0603(1608)_M (Chip Resistor, Body 1.6x0.8mm, IPC Low Density)
footprint RESC0603(1608)_L (Chip Resistor, Body 1.6x0.8mm, IPC High Density)
footprint 0603
pins: 1, 2
1 alternate drawing of the same symbol

## 22uF 0603
designator C?, comment 22uF
Cap Ceramic 22uF 10V X5R ±20% Pad SMD 0603 +85°C T/R; Max Operating Temperature: 85°C; Packaging: Tape and Reel; Mount: Surface Mount; Width: 0.031inch; Length: 0.063inch; Min Operating Temperature: -55°C; Voltage Rating: 10V; Case/Package: 0603; Thickness: 0.037inch; Case Code (Metric): 1608; Tolerance: 20%; Case Code (Imperial): 0603; Capacitance: 22uF; ComponentLink1Description: Link; ComponentLink1URL: https://www.digikey.com/en/products/detail/samsung-electro-mechanics/CL10B224KB8VPNC/5961084
footprint FP-CL10-IPC_B
footprint FP-CL10-IPC_C
footprint FP-CL10-IPC_A
footprint 0603
pins: 1, 2

## 24-pin minifit RA
designator J?, comment 24-pin minifit
RA: WM21362-ND / VERT: WM3811-ND
footprint 24-PIN MINIFIT RA
footprint 24-PIN MINIFIT VERT
pins: 1, 2, 3, 4, 5, 6, 7, 8, 9, 10, 11, 12, 13, 14, 15, 16, 17, 18, 19, 20, 21, 22, 23, 24

## 30pF 0603
designator C?, comment 30pF
CAP 30pF 50V ±10% 0603 (1608 Metric) Thickness 1mm SMD; Tolerance: Â±10%; Case-Metric: 1608; Case-EIA: 0603; Rated Voltage: 50 V; Technology: SMT; Value: 30pF; Max Thickness: 1 mm; ComponentLink1Description: Link; ComponentLink1URL: https://www.digikey.com/en/products/detail/stackpole-electronics-inc/CML0603C0G300JT50V/10659967
footprint CAPC0603(1608)100_N (Chip Capacitor, Body 1.6x0.8mm, Height 1.0mm, IPC Medium Density)
footprint CAPC0603(1608)100_L (Chip Capacitor, Body 1.6x0.8mm, Height 1.0mm, IPC High Density)
footprint CAPC0603(1608)100_M (Chip Capacitor, Body 1.6x0.8mm, Height 1.0mm, IPC Low Density)
footprint 0603
pins: 1, 2
1 alternate drawing of the same symbol

## 35SVPF22M
designator ?
No Description Available; Manufacturer_Part_Number: 35SVPF22M; Vendor: Panasonic; Manufacturer_Name: Panasonic; Copyright: Copyright (C) 2018 Accelerated Designs. All rights reserved; RefDes: RefDes; TYPE: TYPE; Value: Value
footprint CAPSMT_62_F61
pins: 1 +, 2 -

## 41K2 0603
designator R?, comment 41K2
ERA3AEB4122V-41k2 0603; Manufacturer: Panasonic; Part Number: ERA3AEB4122V; ComponentLink1Description: Link; ComponentLink1URL: https://www.digikey.com/en/products/detail/yageo/RC0603FR-1041K2L/14008303
footprint RESC1608X55X30LL20T20 (Chip Resistor, 2-Leads, Body 1.60x0.80mm, IPC High Density)
footprint RESC1608X55X30NL20T20 (Chip Resistor, 2-Leads, Body 1.60x0.80mm, IPC Medium Density)
footprint RESC1608X55X30ML20T20 (Chip Resistor, 2-Leads, Body 1.60x0.80mm, IPC Low Density)
footprint 0603
pins: 1, 2
1 alternate drawing of the same symbol

## 45-Pin Molex FPC LCD
designator J?, comment 0512964594
45 pin Molex FPC, 0.50mm pitch; Supplier 1: Digi-Key; Supplier Part Number 1: WM6749TR-ND; Manufacturer: Molex; Manufacturer Part Number: 0512964594; Datasheet: http://www.molex.com/webdocs/datasheets/pdf/en-us/0512964594_FFC_FPC_CONNECTORS.pdf
footprint 45-pin Molex FPC (Molex FPC connector, SMT, 45 pos)
pins: 1 LED A, 2 LED K1, 3 LED K2, 4 LED K3, 5 LED K4, 6 IM0, 7 IM1, 8 IM2, 9 IM3, 10 FMARK, 11 VSYNC, 12 HSYNC, 13 DOTCLK, 14 ENABLE, 15 DB17, 16 DB16, 17 DB15, 18 DB14, 19 DB13, 20 DB12, 21 DB11, 22 DB10, 23 DB9, 24 DB8, 25 DB7, 26 DB6, 27 DB5, 28 DB4, 29 DB3, 30 DB2, 31 DB1, 32 DB0, 33 CS, 34 WR, 35 RS/SCL, 36 RD, 37 RESET, 38 SDO, 39 SDI, 40 VCC, 41 GND, 42 NC, 43 NC, 44 NC, 45 NC

## 45-Pin Molex Vertical FPC Connector with LCD
designator J?, comment 5019514510  Supplier Part Number 1: WM8862CT-ND
45 pin Molex, 0.50mm pitch, with LCD Display; Manufacturer Part Number: 0541044531; LCD Manufacturer: Displaytech; LCD Manufacturer Part Number: DT028ATFT; Manufacturer: Molex; Datasheet: http://www.molex.com/pdm_docs/sd/541044631_sd.pdf; LCD Datasheet: http://www.mouser.com/ds/2/116/DT028ATFT-v21-221378.pdf; Supplier 1: Digi-Key
footprint LCD Display with FPC Connector (2.8" Displaytech DT028ATFT LCD Display with Molex 0541044531 Right Angle 45-pin FPC Connector)
pins: 0 MOUNT, 1 LED A, 2 LED K1, 3 LED K2, 4 LED K3, 5 LED K4, 6 IM0, 7 IM1, 8 IM2, 9 IM3, 10 FMARK, 11 VSYNC, 12 HSYNC, 13 DOTCLK, 14 ENABLE, 15 DB17, 16 DB16, 17 DB15, 18 DB14, 19 DB13, 20 DB12, 21 DB11, 22 DB10, 23 DB9, 24 DB8, 25 DB7, 26 DB6, 27 DB5, 28 DB4, 29 DB3, 30 DB2, 31 DB1, 32 DB0, 33 CS, 34 WR, 35 RS/SCL, 36 RD, 37 RESET, 38 SDO, 39 SDI, 40 VCC, 41 GND, 42 NC, 43 NC, 44 NC, 45 NC

## 47nF 0603
designator C?, comment 47nF
47nF 0603; Manufacturer: Murata; Part Number: GRM188R71E473KA01D; ComponentLink1Description: Link; ComponentLink1URL: https://www.digikey.com/en/products/detail/kemet/C0603X473J4RECAUTO7411/8654446
footprint CAPC1608X90X35LL10T15 (Chip Capacitor, 2-Leads, Body 1.60x0.80mm, IPC High Density)
footprint CAPC1608X90X35NL10T15 (Chip Capacitor, 2-Leads, Body 1.60x0.80mm, IPC Medium Density)
footprint CAPC1608X90X35ML10T15 (Chip Capacitor, 2-Leads, Body 1.60x0.80mm, IPC Low Density)
footprint 0603
pins: 1, 2
1 alternate drawing of the same symbol

## 47uF 1206
designator C?, comment 47uF
CAP 47uF 16V ±20% 1206 (3216 Metric) Thickness 1.9mm SMD; Case-EIA: 1206; Tolerance: Â±20%; Case-Metric: 3216; Rated Voltage: 16 V; Technology: SMT; Value: 47uF; Max Thickness: 1.9 mm; ComponentLink1Description: Link; ComponentLink1URL: https://www.digikey.com/en/products/detail/taiyo-yuden/EMK316BBJ476ML-T/7067010
footprint CAPC1206(3216)190_M (Chip Capacitor, Body 3.2x1.6mm, Height 1.9mm, IPC Low Density)
footprint CAPC1206(3216)190_N (Chip Capacitor, Body 3.2x1.6mm, Height 1.9mm, IPC Medium Density)
footprint CAPC1206(3216)190_L (Chip Capacitor, Body 3.2x1.6mm, Height 1.9mm, IPC High Density)
footprint 1206
pins: 1, 2
1 alternate drawing of the same symbol

## 48 Position DIP
designator XQ?  Supplier Part Number 1: 3M5472-ND
CONN IC DIP SOCKET 48POS TIN; Supplier 1: Digi-Key
footprint DIP48
pins: 1, 2, 3, 4, 5, 6, 7, 8, 9, 10, 11, 12, 13, 14, 15, 16, 17, 18, 19, 20, 21, 22, 23, 24, 25, 26, 27, 28, 29, 30, 31, 32, 33, 34, 35, 36, 37, 38, 39, 40, 41, 42, 43, 44, 45, 46, 47, 48

## 50SVPF39M
designator ?
No Description Available; Manufacturer_Part_Number: 50SVPF39M; Cap: 39E-6; ESR: 0.025; IRMS: 3.8; VDC: 50.0; Vendor: Panasonic; Datasheet_URL: https://industrial.panasonic.com/cdbs/www-data/pdf/AAB8000/AAB8000C177.pdf; Datasheet: https://industrial.panasonic.com/cdbs/www-data/pdf/AAB8000/AAB8000C177.pdf; Manufacturer_Name: Panasonic; Copyright: Copyright (C) 2018 Accelerated Designs. All rights reserved; RefDes: RefDes; TYPE: TYPE; Value: Value
footprint CAPSMT_62_E12
pins: 1 +, 2 -

## 51K 0603
designator R?, comment 51K 1%
51K 0.1W 1% 0603 (1608 Metric)  SMD; Case-EIA: 0603; Case-Metric: 1608; Value: 51000.00 Ohm; Tolerance: 1 %; Technology: SMT; Power: 0.1 W; ComponentLink1Description: Link; ComponentLink1URL: https://www.digikey.com/en/products/detail/panasonic-electronic-components/ERJ-PB3B5102V/6212949
footprint RESC0603(1608)_N (Chip Resistor, Body 1.6x0.8mm, IPC Medium Density)
footprint RESC0603(1608)_M (Chip Resistor, Body 1.6x0.8mm, IPC Low Density)
footprint RESC0603(1608)_L (Chip Resistor, Body 1.6x0.8mm, IPC High Density)
footprint 0603
pins: 1, 2
1 alternate drawing of the same symbol

## 56pF 0603
designator C?, comment 56pF
Multilayer Ceramic Capacitors 56pF ±5% 50V C0G SMD 0603; Voltage Rating (DC): 50V; Lead Free: Lead Free; Termination: SMD/SMT; Min Operating Temperature: -55°C; Dielectric: C0G; Dielectric Material: Ceramic; Packaging: Tape and Reel; REACH SVHC: No SVHC; Case Code (Imperial): 0603; Package Quantity: 1; Case/Package: 0603; Tolerance: 5%; Mount: Surface Mount; Depth: 0.8mm; Series: C; Construction: Flat; Max Operating Temperature: 125°C; RoHS Compliant: Yes; Thickness: 0.037inch; Radiation Hardening: No; Width: 0.031inch; Height: 0.8mm; Capacitance: 56pF; Voltage Rating: 50V; Weight: 7.1E-05oz; Case Code (Metric): 1608; Length: 1.6mm; ComponentLink1Description: Link; ComponentLink1URL: https://www.digikey.com/en/products/detail/samsung-electro-mechanics/CL10C560JB8NNNC/3886855
footprint FP-C1608-080-0_1-IPC_C
footprint FP-C1608-080-0_1-IPC_B
footprint FP-C1608-080-0_1-MFG
footprint FP-C1608-080-0_1-IPC_A
footprint 0603
pins: 1, 2

## 60v Zener
designator D?, comment 60V Zener Diode
footprint MMSZ5264BT1G (60v Zener)
pins: 1, 2

## 74HC4051PW,118
designator U?
IC MUX/DEMUX 8X1 16TSSOP; RoHS Compliant: Yes; ComponentLink1Description: Link; ComponentLink1URL: https://www.digikey.com/en/products/detail/nexperia-usa-inc/74HC4051PW-118/946649
footprint FP-SOT403-1-IPC_A
footprint FP-SOT403-1-IPC_B
footprint FP-SOT403-1-MFG
footprint FP-SOT403-1-IPC_C
pins: 1 Y4 (io), 2 Y6 (io), 3 Z (io), 4 Y7 (io), 5 Y5 (io), 6 ~{E} (in), 7 VEE (power), 8 GND (power), 9 S2 (in), 10 S1 (in), 11 S0 (in), 12 Y3 (io), 13 Y0 (io), 14 Y1 (io), 15 Y2 (io), 16 VCC (power)

## 75pF 0603
designator C?, comment 75pF
CAP 75pF 25V ±1% 0603 (1608 Metric) Thickness 1mm SMD; Case-Metric: 1608; Case-EIA: 0603; Tolerance: Â±1%; Rated Voltage: 25 V; Technology: SMT; Max Thickness: 1 mm; Value: 75pF; ComponentLink1Description: Link; ComponentLink1URL: https://www.digikey.com/en/products/detail/yageo/CC0603FRNPO9BN750/5883517
footprint CAPC0603(1608)100_L (Chip Capacitor, Body 1.6x0.8mm, Height 1.0mm, IPC High Density)
footprint CAPC0603(1608)100_M (Chip Capacitor, Body 1.6x0.8mm, Height 1.0mm, IPC Low Density)
footprint CAPC0603(1608)100_N (Chip Capacitor, Body 1.6x0.8mm, Height 1.0mm, IPC Medium Density)
footprint 0603
pins: 1, 2
1 alternate drawing of the same symbol

## 88K7 0603
designator R?, comment 88K7 1%
88K7 0.1W 1% 0603 (1608 Metric)  SMD; Value: 88700.00 Ohm; Case-Metric: 1608; Case-EIA: 0603; Tolerance: 1 %; Power: 0.1 W; Technology: SMT; ComponentLink1Description: Link; ComponentLink1URL: https://www.digikey.com/en/products/detail/yageo/RC0603FR-0788K7L/727415
footprint RESC0603(1608)_L (Chip Resistor, Body 1.6x0.8mm, IPC High Density)
footprint RESC0603(1608)_M (Chip Resistor, Body 1.6x0.8mm, IPC Low Density)
footprint RESC0603(1608)_N (Chip Resistor, Body 1.6x0.8mm, IPC Medium Density)
footprint 0603
pins: 1, 2
1 alternate drawing of the same symbol

## 100K 0603
designator R?, comment 100K
ERJ-3EKF1003V-100k 0603; Manufacturer: Panasonic; Part Number: ERJ-3EKF1003V; ComponentLink1Description: Link; ComponentLink1URL: https://www.digikey.com/en/products/detail/yageo/RC0603FR-07100KL/726889
footprint RESC1608X55X30ML15T15 (Chip Resistor, 2-Leads, Body 1.60x0.80mm, IPC Low Density)
footprint RESC1608X55X30NL15T15 (Chip Resistor, 2-Leads, Body 1.60x0.80mm, IPC Medium Density)
footprint RESC1608X55X30LL15T15 (Chip Resistor, 2-Leads, Body 1.60x0.80mm, IPC High Density)
footprint 0603
pins: 1, 2
1 alternate drawing of the same symbol

## 100nF 0603
designator C?, comment 100nF
CAP 100nF 100V ±10% 0603 (1608 Metric) Thickness 1mm SMD; Tolerance: Â±10%; Case-EIA: 0603; Case-Metric: 1608; Rated Voltage: 100 V; Value: 100nF; Technology: SMT; Max Thickness: 1 mm; ComponentLink1Description: Link; ComponentLink1URL: https://www.digikey.com/en/products/detail/samsung-electro-mechanics/CL10B104KC8NNNC/5961291
footprint CAPC0603(1608)100_L (Chip Capacitor, Body 1.6x0.8mm, Height 1.0mm, IPC High Density)
footprint CAPC0603(1608)100_N (Chip Capacitor, Body 1.6x0.8mm, Height 1.0mm, IPC Medium Density)
footprint CAPC0603(1608)100_M (Chip Capacitor, Body 1.6x0.8mm, Height 1.0mm, IPC Low Density)
footprint 0603
pins: 1, 2
1 alternate drawing of the same symbol

## 100R 0603
designator R?, comment 100R
100R 0.1W 5%; Part Number: CRCW0603100RJNTA; Manufacturer: Vishay Dale; ComponentLink1Description: Link; ComponentLink1URL: https://www.digikey.com/en/products/detail/yageo/RC0603FR-13100RL/12756392
footprint RESC1609X50X30NL10T20 (Chip Resistor, 2-Leads, Body 1.55x0.85mm, IPC Medium Density)
footprint RESC1609X50X30LL10T20 (Chip Resistor, 2-Leads, Body 1.55x0.85mm, IPC High Density)
footprint RESC1609X50X30ML10T20 (Chip Resistor, 2-Leads, Body 1.55x0.85mm, IPC Low Density)
footprint 0603
pins: 1, 2
1 alternate drawing of the same symbol

## 100SXV15M
designator ?
No Description Available; Manufacturer_Part_Number: 100SXV15M; Cap: 1.5E-5; ESR: 0.04; IRMS: 2.35; VDC: 100.0; Vendor: Panasonic; Datasheet_URL: %20; Manufacturer_Name: Panasonic; Copyright: Copyright (C) 2018 Accelerated Designs. All rights reserved; RefDes: RefDes; Type: DEV; Value: Value
footprint CAPSMT_62_E12
pins: 1 +, 2 -

## 160K 0805
designator R?, comment 160K  (value not drawn)
RES Thick Film, 160kΩ, 1%, 0.125W, 100ppm/°C, 0805; Voltage Rating: 150V; Power Rating: 125mW; Width: 1.25mm; Case/Package: 0805; Package Quantity: 5000; Temperature Coefficient: 100ppm/°C; Length: 2mm; Height: 0.45mm; Weight: 0.000194oz; Mount: Surface Mount; Case Code (Metric): 2012; Min Operating Temperature: -55°C; Termination: SMD/SMT; Case Code (Imperial): 0805; Number of Pins: 2; Packaging: Tape and Reel; Max Operating Temperature: 155°C; Radiation Hardening: No; Military Standard: Not; Depth: 1.25mm; Tolerance: 1%; Composition: Thick Film; Contact Plating: Tin; ComponentLink1Description: Link; ComponentLink1URL: https://www.digikey.com/en/products/detail/yageo/RC0805FR-07160KL/727628
footprint FP-CRCW0805-e3-IPC_C
footprint FP-CRCW0805-e3-IPC_B
footprint FP-CRCW0805-e3-IPC_A
footprint FP-CRCW0805-e3-MFG
footprint 0805
pins: 1, 2

## 204-212ST
designator S?  Supplier Part Number 1: CT204212ST-ND
SWITCH SLIDE DIP DPST 50MA 24V; Supplier 1: Digi-Key
footprint 204-212ST  2 POS DPST (Dip Switch DPST 2 Position Surface Mount Slide (Standard) Actuator 50mA 24VDC)
pins: 1, 2, 3, 4, 5, 6, 7, 8

## 219-3LPSTR
designator S?, comment CT3115CT-ND  Supplier Part Number 1: CT3115DKR-ND
SWITCH SLIDE DIP SPST 100MA 20V; Supplier 1: Digi-Key
footprint 219-3LPSTR (SWITCH SLIDE DIP SPST 100MA 20V)
pins: 1, 2, 3, 4, 5, 6

## 220nF 0603
designator C?, comment 220nF
C0603C224K8NACTU-220nF 0603; Manufacturer: Kemet; Part Number: C0603C224K8NACTU; ComponentLink1Description: Link; ComponentLink1URL: https://www.digikey.com/en/products/detail/kemet/C0603C224K4RECAUTO/8640476
footprint CAPC1608X87X35NL15T15 (Chip Capacitor, 2-Leads, Body 1.60x0.80mm, IPC Medium Density)
footprint CAPC1608X87X35LL15T15 (Chip Capacitor, 2-Leads, Body 1.60x0.80mm, IPC High Density)
footprint CAPC1608X87X35ML15T15 (Chip Capacitor, 2-Leads, Body 1.60x0.80mm, IPC Low Density)
footprint 0603
pins: 1, 2
1 alternate drawing of the same symbol